# EAGLE library part MAX17048G+T10 (library DeskAssistant v19 v1 v6)
Check availability <https://pricing.snapeda.com/parts/MAX17048G%2BT10/Analog%20Devices/view-part?ref=eda>
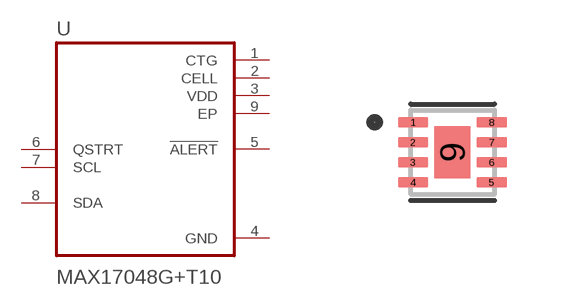
[diagram p5: symbol with the pads of SON50P200X200X80-9N; footprint SON50P200X200X80-9N]

Designator prefix U

## MAX17048G+T10 (AVAILABILITY: In Stock; CHECK_PRICES: https://www.snapeda.com/parts/MAX17048G+T10/Analog+Devices/view-part/?ref=eda; DESCRIPTION: 3µA 1-Cell/2-Cell Fuel Gauge with ModelGauge; MF: Analog Devices; MP: MAX17048G+T10; PACKAGE: TDFN-8 Maxim; PRICE: None; PURCHASE-URL: https://www.snapeda.com/api/url_track_click_mouser/?unipart_id=329239&manufacturer=Analog Devices&part_name=MAX17048G+T10&search_term=None; SNAPEDA_LINK: https://www.snapeda.com/parts/MAX17048G+T10/Analog+Devices/view-part/?ref=snap)  [SON50P200X200X80-9N]
1  CTG  pwr
2  CELL  pwr
3  VDD  pwr
4  GND  pwr
5  !ALERT  out
6  QSTRT  in
7  SCL  in
8  SDA
9  EP  pwr

## Footprint SON50P200X200X80-9N (pad centres in mm)
smd 0.76 x 0.27: 1 -0.985,0.75; 2 -0.985,0.25; 3 -0.985,-0.25; 4 -0.985,-0.75; 5 0.985,-0.75; 6 0.985,-0.25; 7 0.985,0.25; 8 0.985,0.75
smd 0.9 x 1.3: 9 0,0